# Altium footprint library Inductor.PcbLib: 1 footprints
Each footprint in its own frame and in the unit in brackets; x right, y up, seen from the top. Pads: shape width x height; smd on the part's side, far side on the other; paste and mask are expansions set on the pad; w line width, h text height; cw(c..) or ccw(c..) is an arc to the next point about the centre after c.
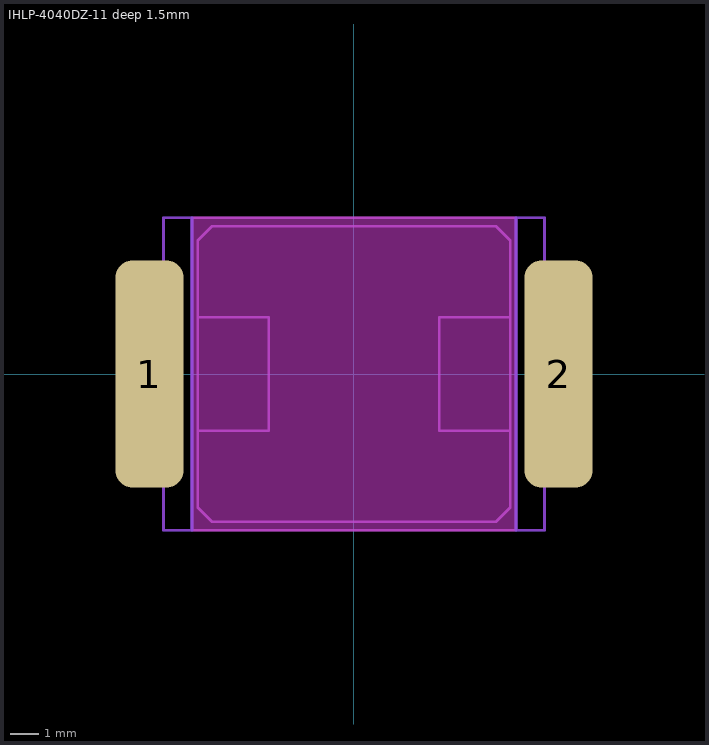
[diagram p0: the footprint, top view; thin cyan lines are the x and y axes]

## IHLP-4040DZ-11 deep 1.5mm [mm] "Low Profile High Current Inductor 10.3x10.3x4.0mm"
pads (2):
  rrect50% 2.4x8 smd: 1(-7.2,0) 2(7.2,0)
Bottom Layer keep-out:
  lines w0.1: -6.7,-5.5 -5.7,-5.5 -5.7,5.5 -6.7,5.5 -6.7,-5.5 ; 5.7,-5.5 5.7,5.5 6.7,5.5 6.7,-5.5 5.7,-5.5
Keep-Out Layer:
  board cut-out: -5.7,5.5 5.7,5.5 5.7,-5.5 -5.7,-5.5
  lines w0.1: -5.7,-5.5 5.7,-5.5 5.7,5.5 -5.7,5.5 -5.7,-5.5
Mechanical 1:
  lines w0.1: -5.7,-5.5 5.7,-5.5 5.7,5.5 -5.7,5.5 -5.7,-5.5
Mechanical 13:
  lines w0.1: -5.5,-4.7 -5.5,4.7 -5,5.2 5,5.2 5.5,4.7 5.5,-4.7 5,-5.2 -5,-5.2 -5.5,-4.7
Mechanical 14:
  lines w0.1: -5.5,-2 -3,-2 -3,2 -5.5,2 ; 5.5,-2 3,-2 3,2 5.5,2 ; -5.5,-4.7 -5.5,4.7 -5,5.2 5,5.2 5.5,4.7 5.5,-4.7 5,-5.2 -5,-5.2 -5.5,-4.7
3D body: height 2, standoff 0, extent 5.5,-4 5.7,4
3D body: height 2, standoff 0, extent -5.7,-4 -5.5,4
3D body: height 2.5, standoff -1, extent -5.5,-5.2 5.5,5.2
3D body: height 2, standoff -1.5, extent -5.7,-2 -3,2
3D body: height 2, standoff -1.5, extent 3,-2 5.7,2